# EAGLE library part CP2102N-QFN28 (library Harrington-ICs v35)
CP2102N QFN28 Silicon Labs - CP2102N 28 pin variant with TXT and RXT
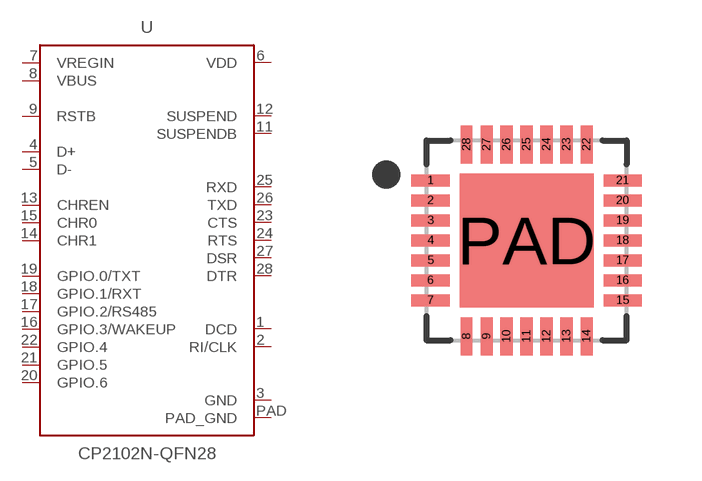
[diagram p1: symbol with the pads of QFN28; footprint QFN28]

Designator prefix U

## CP2102N-QFN28  [QFN28]
1  DCD
2  RI/CLK
3  GND
4  D+
5  D-
6  VDD
7  VREGIN
8  VBUS
9  RSTB
11  SUSPENDB
12  SUSPEND
13  CHREN
14  CHR1
15  CHR0
16  GPIO.3/WAKEUP
17  GPIO.2/RS485
18  GPIO.1/RXT
19  GPIO.0/TXT
20  GPIO.6
21  GPIO.5
22  GPIO.4
23  CTS
24  RTS
25  RXD
26  TXD
27  DSR
28  DTR
PAD  PAD_GND

## Footprint QFN28 (pad centres in mm)
smd 0.95 x 0.3: 1 -2.4,1.5; 2 -2.4,1; 3 -2.4,0.5; 4 -2.4,0; 5 -2.4,-0.5; 6 -2.4,-1; 7 -2.4,-1.5; 15 2.4,-1.5; 16 2.4,-1; 17 2.4,-0.5; 18 2.4,0; 19 2.4,0.5; 20 2.4,1; 21 2.4,1.5
smd 0.3 x 0.95: 8 -1.5,-2.4; 9 -1,-2.4; 10 -0.5,-2.4; 11 0,-2.4; 12 0.5,-2.4; 13 1,-2.4; 14 1.5,-2.4; 22 1.5,2.4; 23 1,2.4; 24 0.5,2.4; 25 0,2.4; 26 -0.5,2.4; 27 -1,2.4; 28 -1.5,2.4
smd 3.35 x 3.35: PAD 0,0